# Altium schematic symbol library guardRing.SchLib: 1 symbol
Pins are listed as number, name and electrical type; pins without a type are passive.

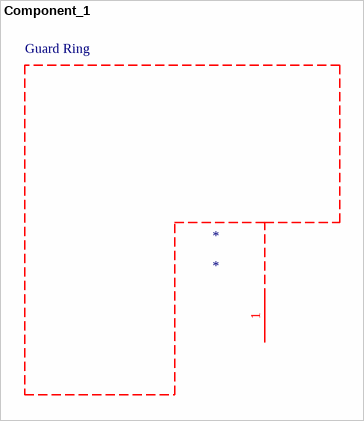
[diagram p0: symbol Component_1]

## Component_1
designator *
footprint Guard
pins: 1 15
text: Guard Ring